# Altium footprint library TPS62177DQCR.PcbLib: 1 footprints
Each footprint in its own frame and in the unit in brackets; x right, y up, seen from the top. Pads: shape width x height; smd on the part's side, far side on the other; paste and mask are expansions set on the pad; w line width, h text height; cw(c..) or ccw(c..) is an arc to the next point about the centre after c.
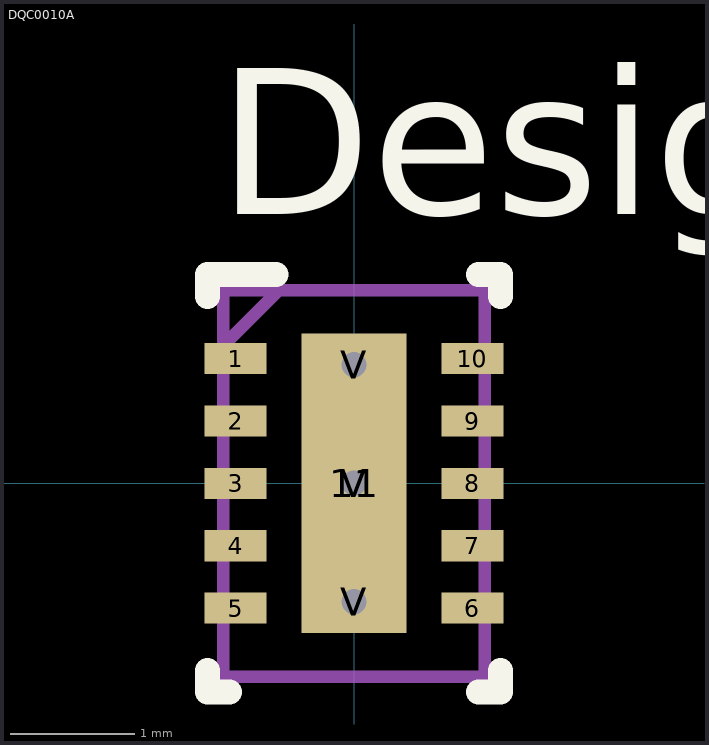
[diagram p0: the footprint, top view; thin cyan lines are the x and y axes]

## DQC0010A [mm]
pads (14):
  rect 0.5x0.25 smd paste+0 mask+0.051: 1(-0.95,1) 2(-0.95,0.5) 3(-0.95,0) 4(-0.95,-0.5) 5(-0.95,-1) 6(0.95,-1) 7(0.95,-0.5) 8(0.95,0) 9(0.95,0.5) 10(0.95,1)
  rect 0.84x2.4 smd paste-0.42 mask+0.051: 11(0,0)
  round 0.5 hole 0.203 mask+0.051: V(0,-0.95) V(0,0) V(0,0.95)
Top Overlay:
  lines w0.2: -1.175,-1.5 -1.175,-1.675 -1,-1.675 ; -1.175,1.5 -1.175,1.675 -0.625,1.675 ; 1,-1.675 1.175,-1.675 1.175,-1.5 ; 1,1.675 1.175,1.675 1.175,1.5
  text "Designator9" at -1.092,2.159 h1.27
Top Paste:
  region: -0.399,-1.141 -0.4,-1.132 -0.4,-0.148 -0.399,-0.139 -0.396,-0.13 -0.392,-0.121 -0.386,-0.114 -0.379,-0.108 -0.37,-0.104 -0.361,-0.101 -0.352,-0.1 0.352,-0.1 0.361,-0.101 0.37,-0.104 0.379,-0.108 0.386,-0.114 0.392,-0.121 0.396,-0.13 0.399,-0.139 0.4,-0.148 0.4,-1.132 0.399,-1.141 0.396,-1.15 0.392,-1.159 0.386,-1.166 0.379,-1.172 0.37,-1.176 0.361,-1.179 0.352,-1.18 -0.352,-1.18 -0.361,-1.179 -0.37,-1.176 -0.379,-1.172 -0.386,-1.166 -0.392,-1.159 -0.396,-1.15
  region: -0.399,0.139 -0.4,0.148 -0.4,1.132 -0.399,1.141 -0.396,1.15 -0.392,1.159 -0.386,1.166 -0.379,1.172 -0.37,1.176 -0.361,1.179 -0.352,1.18 0.352,1.18 0.361,1.179 0.37,1.176 0.379,1.172 0.386,1.166 0.392,1.159 0.396,1.15 0.399,1.141 0.4,1.132 0.4,0.148 0.399,0.139 0.396,0.13 0.392,0.121 0.386,0.114 0.379,0.108 0.37,0.104 0.361,0.101 0.352,0.1 -0.352,0.1 -0.361,0.101 -0.37,0.104 -0.379,0.108 -0.386,0.114 -0.392,0.121 -0.396,0.13
Mechanical 13:
  lines w0.1: -1.05,1.1 -0.6,1.55 ; -1.05,-1.55 -1.05,1.55 1.05,1.55 1.05,-1.55 -1.05,-1.55
  text ".Designator" at -1.035,1.2 h1.27
3D body "DQC0010A.stp": height 0.75, standoff 0, extent -1,-1.5 1,1.5
3D body: height 0.25, standoff 0, extent 0,0 0.254,0.254